# EAGLE library part PH1X6 (library pel_hdr)
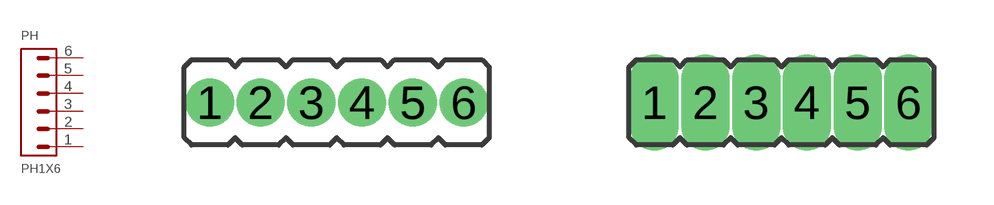
[diagram p0: symbol with the pads of PH005-1-6; footprints PH005-1-6, PHL005-1-6]

Designator prefix PH

## PH1X6-05  [PH005-1-6]
1  1
2  2
3  3
4  4
5  5
6  6

## PH1X6-05LONG  [PHL005-1-6]
Pads as for PH005-1-6

## PH1X6-05LONGSNAP  [PHLS005-1-6]
Pads as for PH005-1-6

## PH1X6-05SNAP  [PHS005-1-6]
Pads as for PH005-1-6

## Footprint PH005-1-6 (pad centres in mm)
Standard 0.05" (1.27mm) pitch pin header.
drill 0.7 pad 1.016: 1 0,0; 2 1.27,0; 3 2.54,0; 4 3.81,0; 5 5.08,0; 6 6.35,0

## Footprint PHL005-1-6 (pad centres in mm)
Standard 0.05" (1.27mm) pitch pin header. Long pads.
drill 0.7 pad 1.016 long: 1 0,0; 2 1.27,0; 3 2.54,0; 4 3.81,0; 5 5.08,0; 6 6.35,0

## Footprint PHLS005-1-6 (pad centres in mm)
Standard 0.05" (1.27mm) pitch pin header. Long pads. Snap. (Pete Lewis offset 3mil)
drill 0.7 pad 1.016 long: 1 0,0.076; 2 1.27,-0.076; 3 2.54,0.076; 4 3.81,-0.076; 5 5.08,0.076; 6 6.35,-0.076

## Footprint PHS005-1-6 (pad centres in mm)
Standard 0.05" (1.27mm) pitch pin header. Snap. (Pete Lewis offset 3mil)
drill 0.7 pad 1.016: 1 0,0.076; 2 1.27,-0.076; 3 2.54,0.076; 4 3.81,-0.076; 5 5.08,0.076; 6 6.35,-0.076